# Altium footprint library 1812p.PcbLib: 1 footprints
Each footprint in its own frame and in the unit in brackets; x right, y up, seen from the top. Pads: shape width x height; smd on the part's side, far side on the other; paste and mask are expansions set on the pad; w line width, h text height; cw(c..) or ccw(c..) is an arc to the next point about the centre after c.
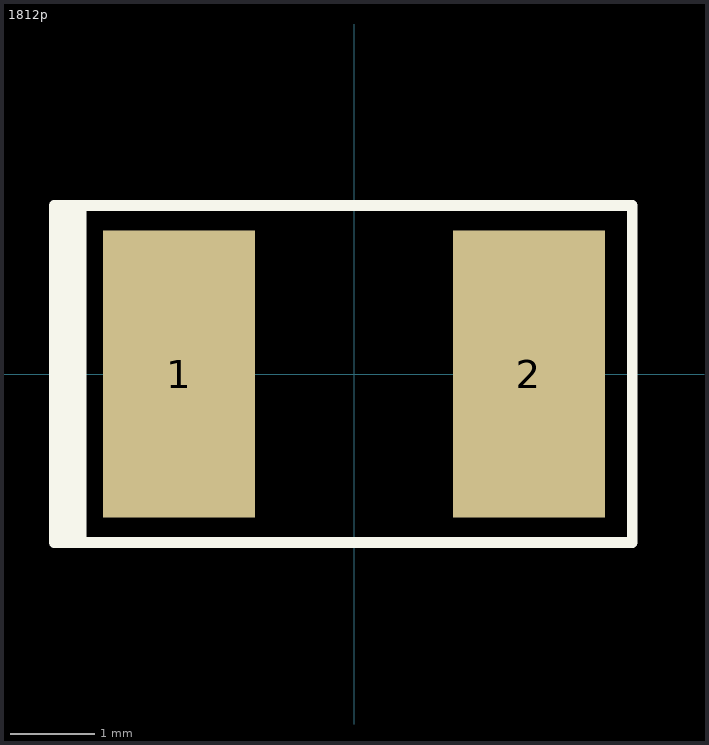
[diagram p0: the footprint, top view; thin cyan lines are the x and y axes]

## 1812p [mm] "Chip Capacitor; Body 4.5 x 3.2 mm (LxW typ) polarized"
height 1.7
pads (2):
  rect 1.8x3.4 smd: 1(-2.075,0) 2(2.075,0)
Top Overlay:
  rectangle: -3.556,-2 -3.175,2
  lines w0.127: -3.556,-2 3.3,-2 3.3,2 -3.556,2 -3.556,-2
3D body: height 1.4, standoff 0, extent -2.8,-1.6 -2.2,1.6
3D body: height 0, standoff 0, extent -3.3,-2 3.3,2
3D body: height 1.4, standoff 0, extent 2.2,-1.6 2.8,1.6
3D body: height 1.2, standoff 0.1, extent -2.2,-1.6 2.2,1.6